# EAGLE library part AD799X (library PP_DigitalIC)
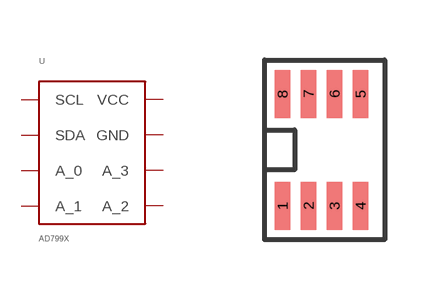
[diagram p14: symbol with the pads of SOT-23-8; footprint SOT-23-8]

Designator prefix U

## AD799XSOT-23-8  [SOT-23-8]
1  SCL
2  SDA
3  A_0
4  A_1
5  A_2
6  A_3
7  GND
8  VCC

## Footprint SOT-23-8 (pad centres in mm)
smd 0.38 x 1.2: 1 -1.3,-1.4; 2 -0.65,-1.4; 3 0,-1.4; 4 0.65,-1.4; 5 0.65,1.4; 6 0,1.4; 7 -0.65,1.4; 8 -1.3,1.4